# Altium schematic symbol library 5557R 1_2P.Schlib: 1 symbol
Pins are listed as number, name and electrical type; pins without a type are passive.

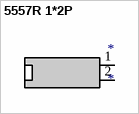
[diagram p0: symbol 5557R 1*2P]

## 5557R 1*2P
designator *
footprint 5557R 1*2P
pins: 1, 2